# Altium schematic symbol library PDB_Board_1.SCHLIB: 23 symbols
Pins are listed as number, name and electrical type; pins without a type are passive.

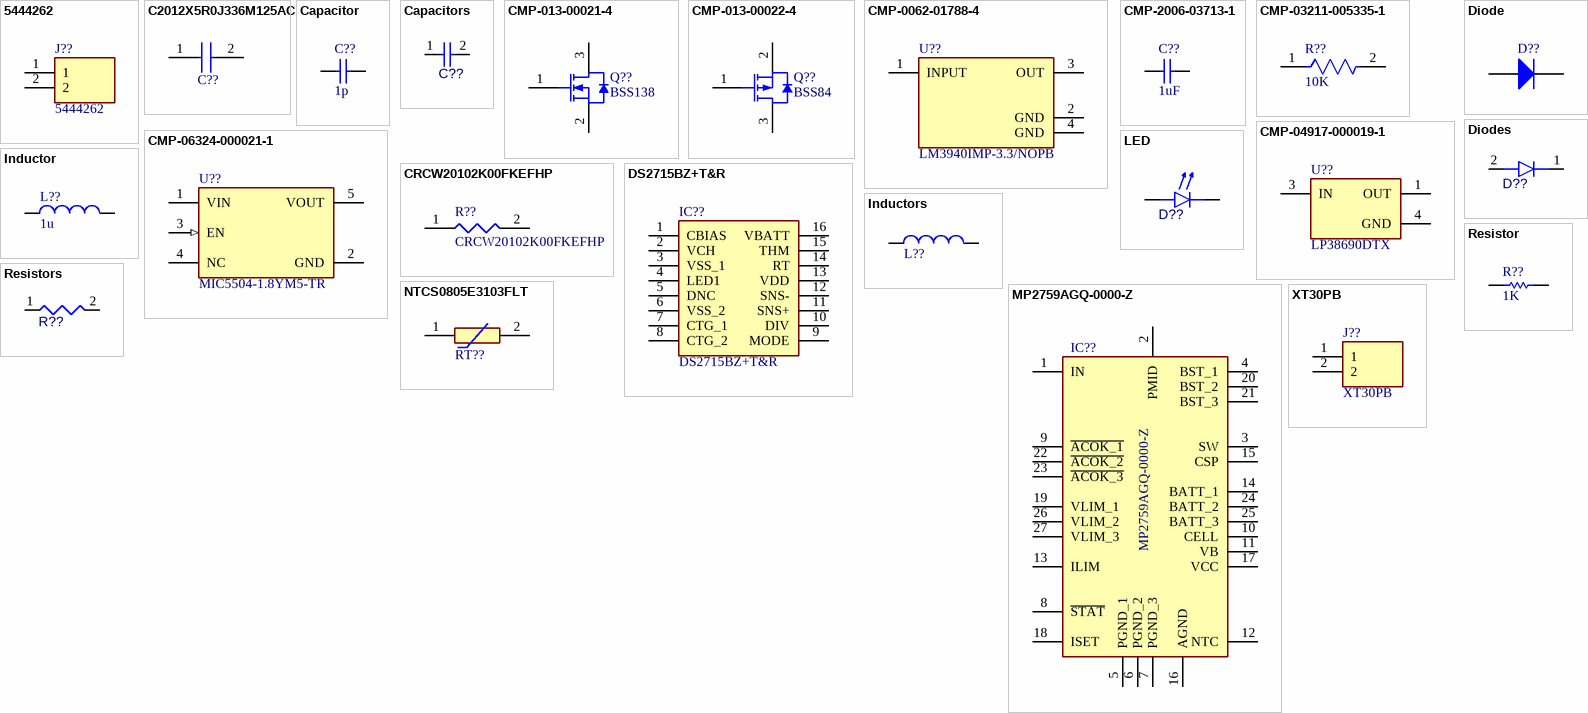
[diagram p0: symbols 5444262 to XT30PB]

## 5444262
designator J??
Connector; Manufacturer_Name: Phoenix Contact; Datasheet Link: https://datasheet.datasheetarchive.com/originals/distributors/Datasheets-DGA25/1829481.pdf; Height: 7.4mm; Manufacturer_Part_Number: 5444262; Mouser Part Number: 651-5444262; Mouser Price/Stock: https://www.mouser.co.uk/ProductDetail/Phoenix-Contact/5444262?qs=9Y9qB%2FCsC3lS%2FxAVKTDcmQ%3D%3D; Arrow Part Number: 5444262; Arrow Price/Stock: https://www.arrow.com/en/products/5444262/phoenix-contact?region=nac
footprint SHDR2W80P0X381_1X2_901X920X740P
pins: 1, 2

## C2012X5R0J336M125AC
designator C??  (value not drawn)
Capacitor; Manufacturer_Name: TDK; Datasheet Link: https://product.tdk.com/info/en/catalog/datasheets/mlcc_commercial_midvoltage_en.pdf; Height: 1.45mm; Manufacturer_Part_Number: C2012X5R0J336M125AC; Mouser Part Number: 810-C2012X5R0J336M; Mouser Price/Stock: https://www.mouser.co.uk/ProductDetail/TDK/C2012X5R0J336M125AC?qs=dfay7wIA1uEz8IOrvQUw5Q%3D%3D; Arrow Part Number: C2012X5R0J336M125AC; Arrow Price/Stock: https://www.arrow.com/en/products/c2012x5r0j336m125ac/tdk?region=nac
footprint CAPC2012X145N
pins: 1, 2

## Capacitor
designator C??  value 1p  (hidden comment: Capacitor)
SimulationGenericComponent: True
simulation model C_Capacitor_Default (CAP)
pins: 1, 2

## Capacitors
designator C??  (value not drawn)
Capacitor; Component Type: Capacitors
pins: 1, 2

## CMP-013-00021-4
designator Q??, comment BSS138
N-Channel Logic Level Enhancement Mode Field Effect Transistor, 220 mA, 50 V, -55 to 150 degC, 3-Pin SOT-23, RoHS, Tape and Reel; Manufacturer: Fairchild; Manufacturer: ON Semiconductor / Fairchild; Elements: 1; Nominal Vgs: 1.3V; Resistance: 0.7Ohm; Typical Rise Time: 9ns; Rds On Max: 3.5Ohm; Nominal Dual Supply Voltage: 50V; Input Capacitance: 27pF; Package Version: Rev. 12, 03/2016; Power: 360mW; Packaging: TapeandReel; Package Description: 3-Pin Small Outline Transistor, Body 2.92 x 1.325 mm, Pitch 0.95 mm; Datasheet URL: https://www.fairchildsemi.com/datasheets/BS/BSS138.pdf; Min Operating Temperature: -55°C; Pins: 3; RoHS Compliant: True; Package Reference: SOT23-3; Package Quantity: 1; Case/Package: TO-236-3; Mounting Technology: SM; Max Operating Temperature: 150°C; Datasheet Version: Rev. C, 10/2005; Manufacturer Part Number: BSS138; Component Type: Transistors
footprint FAIR-SOT23-3_V (SOT23, 3-Leads, Body 3.12x1.5mm, Pitch 0.95mm)
pins: 1 G, 2 S, 3 D

## CMP-013-00022-4
designator Q??, comment BSS84
P-Channel Enhancement Mode Field-Effect Transistor, 0.13 A, 50 V, -55 to 150 degC, 3-Pin SOT23, RoHS, Tape and Reel; Manufacturer: Fairchild; Manufacturer: ON Semiconductor / Fairchild; Nominal Vgs: -1.7V; Typical Rise Time: 6.3ns; Input Capacitance: 73pF; Rds On Max: 10Ohm; Elements: 1; Package Version: Rev. 12, 03/2016; Nominal Dual Supply Voltage: -50V; Power: 360mW; Package Quantity: 3000; Mounting Technology: SM; Package Reference: SOT23-3; Case/Package: TO-236-3; Package Description: 3-Pin Small Outline Transistor, Body 2.92 x 1.325 mm, Pitch 0.95 mm; Datasheet URL: https://www.fairchildsemi.com/datasheets/BS/BSS84.pdf; Packaging: TapeandReel; Max Operating Temperature: 150°C; Min Operating Temperature: -55°C; Pins: 3; Datasheet Version: Rev. 1.1.0, 02/2013; RoHS Compliant: True; Manufacturer Part Number: BSS84; Component Type: Transistors
footprint FAIR-SOT23-3_V (SOT23, 3-Leads, Body 3.12x1.5mm, Pitch 0.95mm)
pins: 1 GATE, 2 SOURCE, 3 DRAIN

## CMP-0062-01788-4
designator U??, comment LM3940IMP-3.3/NOPB
IC REG LINEAR 3.3V 1A SOT223-4; Min Input Voltage: 4.5V; Max Supply Voltage: 7.5V; Number of Outputs: 1; Output Type: Fixed; Polarity: Positive; Dropout Voltage: 500mV; Quiescent Current: 15mA; Max Output Voltage: 3.3V; Length: 6.5mm; Termination: SMD/SMT; Width: 3.56mm; Min Supply Voltage: 4.5V; Max Output Current: 1A; Case/Package: SOT-223; Output Voltage: 3.3V; Current Rating: 1A; Packaging: Tape and Reel; Lead Free: Lead Free; Nominal Output Voltage: 3.3V; Height: 1.6mm; Series: -; Output Configuration: Positive; Radiation Hardening: No; Number of Regulators: 1; Package Quantity: 1000; REACH SVHC: No SVHC; Max Input Voltage: 7.5V; Max Operating Temperature: 125°C; Min Operating Temperature: -40°C; Output Current: 1A; Contact Plating: Tin; Number of Pins: 4; Mount: Surface Mount
footprint FP-DCY0004A-MFG
footprint FP-DCY0004A-IPC_B
footprint FP-DCY0004A-IPC_A
footprint FP-DCY0004A-IPC_C
pins: 1 INPUT (power), 2 GND (power), 3 OUT (power), 4 GND (power)

## CMP-2006-03713-1
designator C??, comment 1uF
Part Number: C0603C105K3RACTU; Manufacturer: Kemet
footprint CAPC1608X87X35LL15T15 (Chip Capacitor, 2-Leads, Body 1.60x0.80mm, IPC High Density)
footprint CAPC1608X87X35ML15T15 (Chip Capacitor, 2-Leads, Body 1.60x0.80mm, IPC Low Density)
footprint CAPC1608X87X35NL15T15 (Chip Capacitor, 2-Leads, Body 1.60x0.80mm, IPC Medium Density)
pins: 1, 2
1 alternate drawing of the same symbol

## CMP-03211-005335-1
designator R??, comment 10K
CRGCQ2010 10KΩ 0.75W ±100ppm/°C 1% 200V; Manufacturer: TE Connectivity; Manufacturer Part Number: CRGCQ2010F10K; Automotive Grade: Grade 0; Tolerance: 0.01; Temperature Coefficient: ±100ppm/°C; Value: 10KΩ; Octopart: https://octopart.com/crgcq2010f10k-te+connectivity-91018452; Automotive: Yes; Temperature Range Low: -55°C; Resistance: 10KΩ; Height: 0.65mm; Lead Free: Yes; Category: Res; Temperature: -55°C to +155°C; Composition: Thick Film; ComponentLink2Description: Datasheet; Temperature Range High: +155°C; Device Class L3: Chip SMD Resistors; Voltage Rating: 200V; Package: CRGCQ2010; Device Class L2: Resistors; RoHS: TRUE; Series: CRGCQ; ComponentLink2URL: https://www.te.com/commerce/DocumentDelivery/DDEController?Action=showdoc&DocId=Data+Sheet%7F1773204-3%7F1%7Fpdf%7FEnglish%7FENG_DS_1773204-3_1.pdf%7F4-2176347-922; Ambient Temperature Range High: +70°C; Device Class L1: Passive Components; Power Rating: 0.75W; Ipc Land Pattern Name: RESC500250X55
footprint FP-CRGCQ2010-IPC_C
footprint FP-CRGCQ2010-IPC_B
footprint FP-CRGCQ2010-IPC_A
pins: 1, 2

## CMP-04917-000019-1
designator U??, comment LP38690DTX
IC REG LINEAR 3.3V 1A TO252-3 / LP38690DTX-3.3_NOPB; Manufacturer: Texas Instruments; Manufacturer Part Number: LP38690DTX-3.3/NOPB; Max Junction Temp: +125°C; Nominal Supply Current: 55uA; Number Of Outputs: 1; Dropout Voltage: 650mV; Standoff Height: 0.17mm; Accuracy Percentage: 2.5%; Max Supply Voltage: 10V; Min Supply Voltage: 2.7V; Output Type: Fixed; Digikey Description: IC REG LINEAR 3.3V 1A TO252-3; Device Class L1: Integrated Circuits (ICs); Mouser Description: LDO Voltage Regulators 1A LDO CMOS Linear Regs Stable; Device Class L3: Voltage Regulators - Linear; Output Voltage: 3.3V; Lead Free: Yes; ComponentLink2Description: Datasheet; Height: 2.72mm; Temperature Range Low: -40°C; Temperature: -40°C to +125°C; Device Class L2: Power Management ICs; Temperature Range High: +125°C; RoHS: TRUE; Octopart: https://octopart.com/lp38690dtx-3.3%2Fnopb-texas+instruments-24816519; Automotive: No; Category: IC; Output Current: 1A; Package: NDP0003B; ComponentLink2URL: http://www.ti.com/lit/ds/symlink/lp38690.pdf
footprint FP-NDP0003B-MFG
pins: 1 OUT (power), 3 IN (power), 4 GND (power)

## CMP-06324-000021-1
designator U??, comment MIC5504-1.8YM5-TR
IC REG LINEAR 1.8V 300MA SOT23-5; Manufacturer: Microchip; Dropout Voltage: 160mV; Number Of Outputs: 1; Nominal Supply Current: 38-42uA; Accuracy Percentage: 2%; Max Supply Voltage: 5.5V; Max Junction Temp: +125°C; Min Supply Voltage: 2.5V; Standoff Height: 0mm; Output Type: Fixed; Temperature Range Low: -40°C; Temperature Range High: +125°C; Automotive: No; Octopart: https://octopart.com/mic5504-1.8ym5-tr-microchip-66803399; RoHS: TRUE; Device Class L1: Integrated Circuits (ICs); Device Class L3: Voltage Regulators - Linear; Package: SOT23-5LD-PL-1; Device Class L2: Power Management ICs; Output Current: 300mA; Digikey Description: IC REG LINEAR 1.8V 300MA SOT23-5; Lead Free: Yes; Output Voltage: 1.8V; Height: 1.45mm; Category: IC; ComponentLink2Description: Datasheet; Temperature: -40°C to +125°C; ComponentLink2URL: http://ww1.microchip.com/downloads/en/DeviceDoc/MIC5501-02-03-04-300mA-Single-Output-LDO-in-Small-Packages-DS20006006B.pdf; Manufacturer Part Number: MIC5504-1.8YM5-TR
footprint FP-SOT23-5LD-PL-1-MFG
footprint FP-SOT23-5LD-PL-1-IPC_C
footprint FP-SOT23-5LD-PL-1-IPC_B
footprint FP-SOT23-5LD-PL-1-IPC_A
pins: 1 VIN (power), 2 GND (power), 3 EN (in), 4 NC, 5 VOUT

## CRCW20102K00FKEFHP
designator R??
Resistor; Manufacturer_Name: Vishay; Datasheet Link: http://www.vishay.com/docs/20043/crcwhpe3.pdf; Height: 0.7mm; Manufacturer_Part_Number: CRCW20102K00FKEFHP; Mouser Part Number: 71-CRCW20102K00FKEFH; Mouser Price/Stock: https://www.mouser.co.uk/ProductDetail/Vishay-Dale/CRCW20102K00FKEFHP?qs=k2%2FDWSARqgHGhBn8H3HYDw%3D%3D; Arrow Part Number: CRCW20102K00FKEFHP; Arrow Price/Stock: https://www.arrow.com/en/products/crcw20102k00fkefhp/vishay
footprint RESC5025X70N
pins: 1, 2

## Diode
designator D??  (value not drawn)
AF: 1; BV: 0; BV_MAX: 1e99; EG: 1.11; FC: 0.5; IBV: 0.001; ISR: 1e-14; MJSW: 0.33; NTUN: 30; TNOM: 27; XTI: 3; SimulationGenericComponent: True; CJO: 0; CJP: 0; CTA: 0; CTP: 0; FCS: 0.5; FV_MAX: 1e99; IKF: 0; IKR: 0; JSW: 0; JTUN: 0; JTUNSW: 0; KEG: 1; KF: 0; LEVEL: 1; N: 1; NBV: 1; NR: 1; NS: 1; PHP: 1; RS: 0; TCV: 0; TLEV: 0; TLEVC: 0; TM1: 0; TM2: 0; TPB: 0; TPHP: 0; TRS: 0; TRS2: 0; TT: 0; TTT1: 0; TTT2: 0; VJ: 1; XTITUN: 3; IS: 1e-14
simulation model diode (Diodes)
pins: 1 A, 2 K

## Diodes
designator D??  (value not drawn)
Diode; Component Type: Diodes
pins: 1 K, 2 A

## DS2715BZ+T&R
designator IC??
Integrated Circuit; Manufacturer_Name: Analog Devices; Datasheet Link: https://www.mouser.in/datasheet/2/256/DS2715-1389140.pdf; Height: 2.65mm; Manufacturer_Part_Number: DS2715BZ+T&R; Mouser Part Number: 700-DS2715BZT&R; Mouser Price/Stock: https://www.mouser.co.uk/ProductDetail/Maxim-Integrated/DS2715BZ%2bTR?qs=LHmEVA8xxfZnvZMuot3c2Q%3D%3D
footprint SOIC127P1032X265-16N
pins: 1 CBIAS, 2 VCH, 3 VSS_1, 4 LED1, 5 DNC, 6 VSS_2, 7 CTG_1, 8 CTG_2, 9 MODE, 10 DIV, 11 SNS+, 12 SNS-, 13 VDD, 14 RT, 15 THM, 16 VBATT

## Inductor
designator L??  value 1u  (hidden comment: Inductor)
SimulationGenericComponent: True
simulation model L_Inductor_Default (INDUCTOR)
pins: 1, 2

## Inductors
designator L??  (value not drawn)
Component Type: Inductors
pins: 1, 2

## LED
designator D??  (value not drawn)
Light-emitting Diode; Component Type: LED
pins: 1 K, 2 A

## MP2759AGQ-0000-Z
designator IC??
Integrated Circuit; Manufacturer_Name: Monolithic Power Systems (MPS); Datasheet Link: https://www.mouser.com/datasheet/2/277/MP2759AGQ-2888162.pdf; Height: 1mm; Manufacturer_Part_Number: MP2759AGQ-0000-Z; Mouser Part Number: 946-MP2759AGQ-0000-Z; Mouser Price/Stock: https://www.mouser.co.uk/ProductDetail/Monolithic-Power-Systems-MPS/MP2759AGQ-0000-Z?qs=Rp5uXu7WBW%2F6%252BI1hHvcUXg%3D%3D
footprint MP2759GQ0000P
pins: 1 IN, 2 PMID, 3 SW, 4 BST_1, 5 PGND_1, 6 PGND_2, 7 PGND_3, 8 ~{STAT}, 9 ~{ACOK_1}, 10 CELL, 11 VB, 12 NTC, 13 ILIM, 14 BATT_1, 15 CSP, 16 AGND, 17 VCC, 18 ISET, 19 VLIM_1, 20 BST_2, 21 BST_3, 22 ~{ACOK_2}, 23 ~{ACOK_3}, 24 BATT_2, 25 BATT_3, 26 VLIM_2, 27 VLIM_3

## NTCS0805E3103FLT
designator RT??  (value not drawn)
Thermistor; Manufacturer_Name: Vishay; Datasheet Link: http://www.vishay.com/docs/29044/ntcs0805e3t.pdf; Height: 0.95mm; Manufacturer_Part_Number: NTCS0805E3103FLT; Mouser Part Number: 594-NTCS0805E3103FLT; Mouser Price/Stock: https://www.mouser.co.uk/ProductDetail/Vishay-BC-Components/NTCS0805E3103FLT?qs=%2FWiulJ9oly4Pd4lidS66Yw%3D%3D; Arrow Part Number: NTCS0805E3103FLT; Arrow Price/Stock: https://www.arrow.com/en/products/ntcs0805e3103flt/vishay
footprint THRMC2012X95N
pins: 1, 2

## Resistor
designator R??  value 1K  (hidden comment: Resistor)
TC1: 0; SimulationGenericComponent: True; TC2: 0
simulation model R_Resistor_Default (Model Description)
pins: 1, 2

## Resistors
designator R??  (value not drawn)
Resistor; Component Type: Resistors
pins: 1, 2
1 alternate drawing of the same symbol

## XT30PB
designator J??
Connector; Manufacturer_Name: Amass; Datasheet Link: https://www.tme.eu/Document/4acc913878197f8c2e30d4b8cdc47230/XT30UPB%20SPEC.pdf; Height: 10.7mm; Manufacturer_Part_Number: XT30PB
footprint XT30PB
pins: 1, 2